# EAGLE library part 90325-0026 (library Molex_By_element14_Batch_1)
HEADER
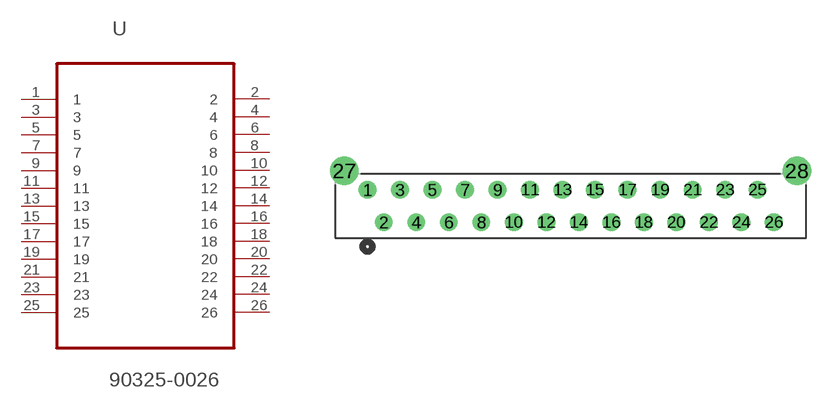
[diagram p42: symbol with the pads of MOLEX_90325-0026; footprint MOLEX_90325-0026]

Designator prefix U

## 90325-0026 (MPN: 90325-0026; OC_FARNELL: 865394; OC_NEWARK: 15J9770; PACKAGE: HEADER, 1.27MM, 26 WAY; SUPPLIER: Molex)  [MOLEX_90325-0026]
1  1  pas
2  2  pas
3  3  pas
4  4  pas
5  5  pas
6  6  pas
7  7  pas
8  8  pas
9  9  pas
10  10  pas
11  11  pas
12  12  pas
13  13  pas
14  14  pas
15  15  pas
16  16  pas
17  17  pas
18  18  pas
19  19  pas
20  20  pas
21  21  pas
22  22  pas
23  23  pas
24  24  pas
25  25  pas
26  26  pas

## Footprint MOLEX_90325-0026 (pad centres in mm)
drill 0.889: 1 0,5.08; 2 1.27,2.54; 3 2.54,5.08; 4 3.81,2.54; 5 5.08,5.08; 6 6.35,2.54; 7 7.62,5.08; 8 8.89,2.54; 9 10.16,5.08; 10 11.43,2.54; 11 12.7,5.08; 12 13.97,2.54; 13 15.24,5.08; 14 16.51,2.54; 15 17.78,5.08; 16 19.05,2.54; 17 20.32,5.08; 18 21.59,2.54; 19 22.86,5.08; 20 24.13,2.54; 21 25.4,5.08; 22 26.67,2.54; 23 27.94,5.08; 24 29.21,2.54; 25 30.48,5.08; 26 31.75,2.54
drill 1.499: 27 -1.803,6.553; 28 33.553,6.553